# Altium footprint library Linear.PcbLib: 5 footprints
Each footprint in its own frame and in the unit in brackets; x right, y up, seen from the top. Pads: shape width x height; smd on the part's side, far side on the other; paste and mask are expansions set on the pad; w line width, h text height; cw(c..) or ccw(c..) is an arc to the next point about the centre after c.
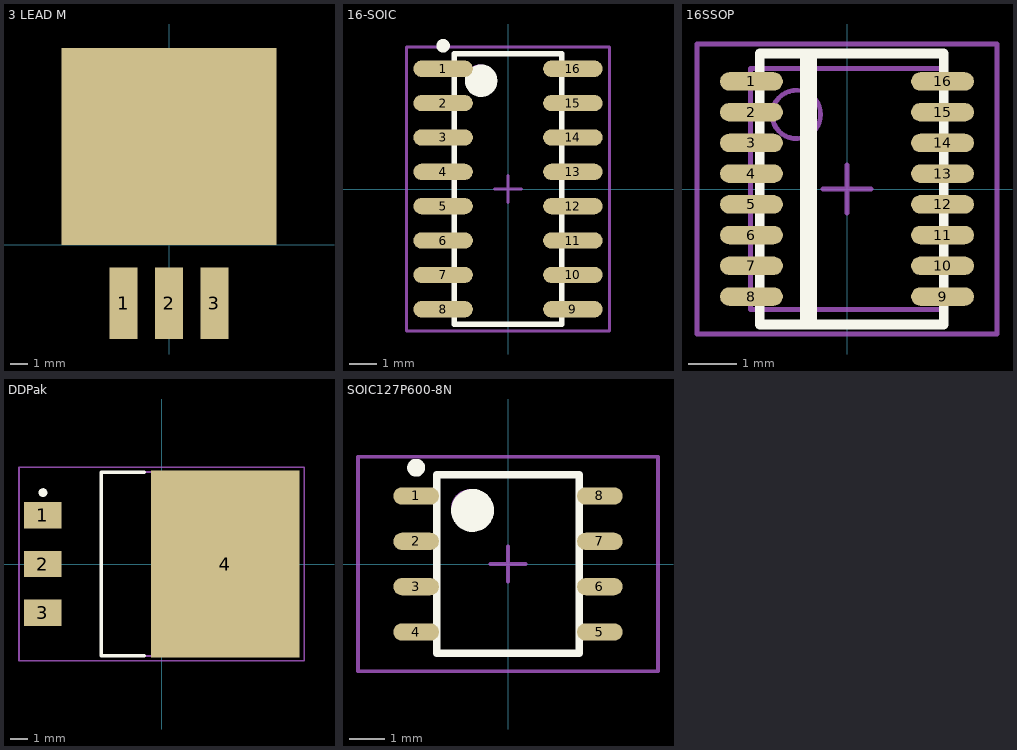
[diagram p0: the footprints below, top view; thin cyan lines are the x and y axes]

## 3 LEAD M [mm] "M package"
pads (4):
  rect 1.57x4 smd: 1(-2.54,-3.25) 2(0,-3.25) 3(2.54,-3.25)
  rect 12x11 smd: ""(0,5.5)

## 16-SOIC [mm] "S Package"
height 1.752
pads (16):
  oval 2.2x0.6 smd: 1(-2.4,4.445) 2(-2.4,3.175) 3(-2.4,1.905) 4(-2.4,0.635) 5(-2.4,-0.635) 6(-2.4,-1.905) 7(-2.4,-3.175) 8(-2.4,-4.445) 9(2.4,-4.445) 10(2.4,-3.175) 11(2.4,-1.905) 12(2.4,-0.635) 13(2.4,0.635) 14(2.4,1.905) 15(2.4,3.175) 16(2.4,4.445)
Top Overlay:
  circle w0.25: c-2.4,5.295 r0.125
  circle w0.6: c-0.994,4.004 r0.3
  lines w0.2: -1.994,-5.004 -1.994,5.004 1.994,5.004 1.994,-5.004 -1.994,-5.004
Mechanical 13:
  circle w0.1: c-1.045,4.055 r0.5
  lines w0.1: -1.995,-5.005 -1.995,5.005 1.995,5.005 1.995,-5.005 -1.995,-5.005
Mechanical 15:
  lines w0.1: -0.5,0 0.5,0 ; 0,-0.5 0,0.5 ; -3.75,-5.25 -3.75,5.25 3.75,5.25 3.75,-5.25 -3.75,-5.25
3D body: height 1.75, standoff 0.25, extent -1.995,-5.005 1.995,5.005

## 16SSOP [mm] "16-Lead Plastic SSOP (Narrow .150 Inch) - GN Package"
height 1.75
pads (16):
  oval 1.3x0.381 smd: 1(-1.975,2.222) 2(-1.975,1.587) 3(-1.975,0.953) 4(-1.975,0.318) 5(-1.975,-0.318) 6(-1.975,-0.953) 7(-1.975,-1.587) 8(-1.975,-2.222) 9(1.975,-2.222) 10(1.975,-1.587) 11(1.975,-0.953) 12(1.975,-0.318) 13(1.975,0.318) 14(1.975,0.953) 15(1.975,1.587) 16(1.975,2.222)
Top Overlay:
  lines w0.152: -0.9,2.8 -0.9,-2.8 -0.9,2.6 -0.8,2.7 -0.8,-2.7 -0.7,-2.8 -0.7,2.8
  lines w0.2: -1.8,-2.8 2,-2.8 2,2.8 -1.8,2.8 -1.8,-2.8
Mechanical 13:
  circle w0.1: c-1.045,1.54 r0.5
  lines w0.1: -1.995,-2.49 1.995,-2.49 1.995,2.49 -1.995,2.49 -1.995,-2.49
Mechanical 15:
  lines w0.1: -0.5,0 0.5,0 ; 0,-0.5 0,0.5 ; -3.1,-3 3.1,-3 3.1,3 -3.1,3 -3.1,-3
3D body: height 1.75, standoff 0.25, extent -1.995,-2.49 1.995,2.49

## DDPak [mm] "D2-PAK, 4-Pads, Body 9.4x10.5mm (max), IPC Medium Density"
height 4.572
pads (4):
  rect 2.15x1.5 smd: 1(-6.8,2.794) 2(-6.8,0) 3(-6.8,-2.794)
  rect 8.5x10.75 smd: 4(3.65,0)
Top Overlay:
  circle w0.25: c-6.8,4.094 r0.125
  lines w0.2: -1,-5.25 -3.45,-5.25 -3.45,5.25 -1,5.25
Mechanical 13:
  lines w0.1: -3.45,-5.275 5.95,-5.275 5.95,5.275 -3.45,5.275 -3.45,-5.275
Mechanical 15:
  lines w0.1: -0.5,0 0.5,0 ; 0,-0.5 0,0.5 ; -8.175,-5.55 8.175,-5.55 8.175,5.55 -8.175,5.55 -8.175,-5.55
3D body: height 4.57, standoff 0, extent -3.45,-5.275 5.95,5.275

## SOIC127P600-8N [mm] "SOIC 8"
height 1.752
pads (8):
  oval 1.28x0.483 smd: 1(-2.572,1.905) 2(-2.572,0.635) 3(-2.572,-0.635) 4(-2.572,-1.905) 5(2.572,-1.905) 6(2.572,-0.635) 7(2.572,0.635) 8(2.572,1.905)
Top Overlay:
  circle w0.25: c-2.572,2.696 r0.125
  circle w0.6: c-0.994,1.5 r0.3
  lines w0.2: -1.994,-2.5 -1.994,2.5 1.994,2.5 1.994,-2.5 -1.994,-2.5
Mechanical 13:
  circle w0.1: c-1.05,1.55 r0.5
  lines w0.1: -2,-2.5 -2,2.5 2,2.5 2,-2.5 -2,-2.5
Mechanical 15:
  lines w0.1: -0.5,0 0.5,0 ; 0,-0.5 0,0.5 ; -4.2,-3 -4.2,3 4.2,3 4.2,-3 -4.2,-3
3D body: height 1.75, standoff 0.1, extent -2,-2.5 2,2.5